# Altium schematic symbol library PC81710NIP1B.SchLib: 1 symbol
Pins are listed as number, name and electrical type; pins without a type are passive.

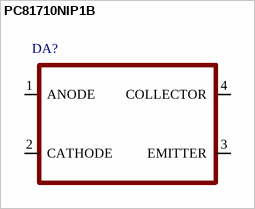
[diagram p0: symbol PC81710NIP1B]

## PC81710NIP1B
designator DA?
pins: 1 ANODE, 2 CATHODE, 3 EMITTER, 4 COLLECTOR